# Altium schematic symbol library gc9a01.SchLib: 1 symbol
Pins are listed as number, name and electrical type; pins without a type are passive.

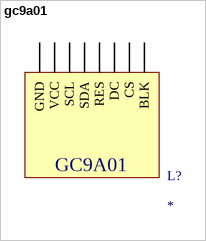
[diagram p0: symbol gc9a01]

## gc9a01
designator L?
footprint gc9a01
pins: 0 GND, 1 VCC, 2 SCL, 3 SDA, 4 RES, 5 DC, 6 CS, 7 BLK
text: GC9A01